# Altium integrated library Micron Memory Parallel NOR Flash.IntLib: 720 symbols (part 42 of 216)
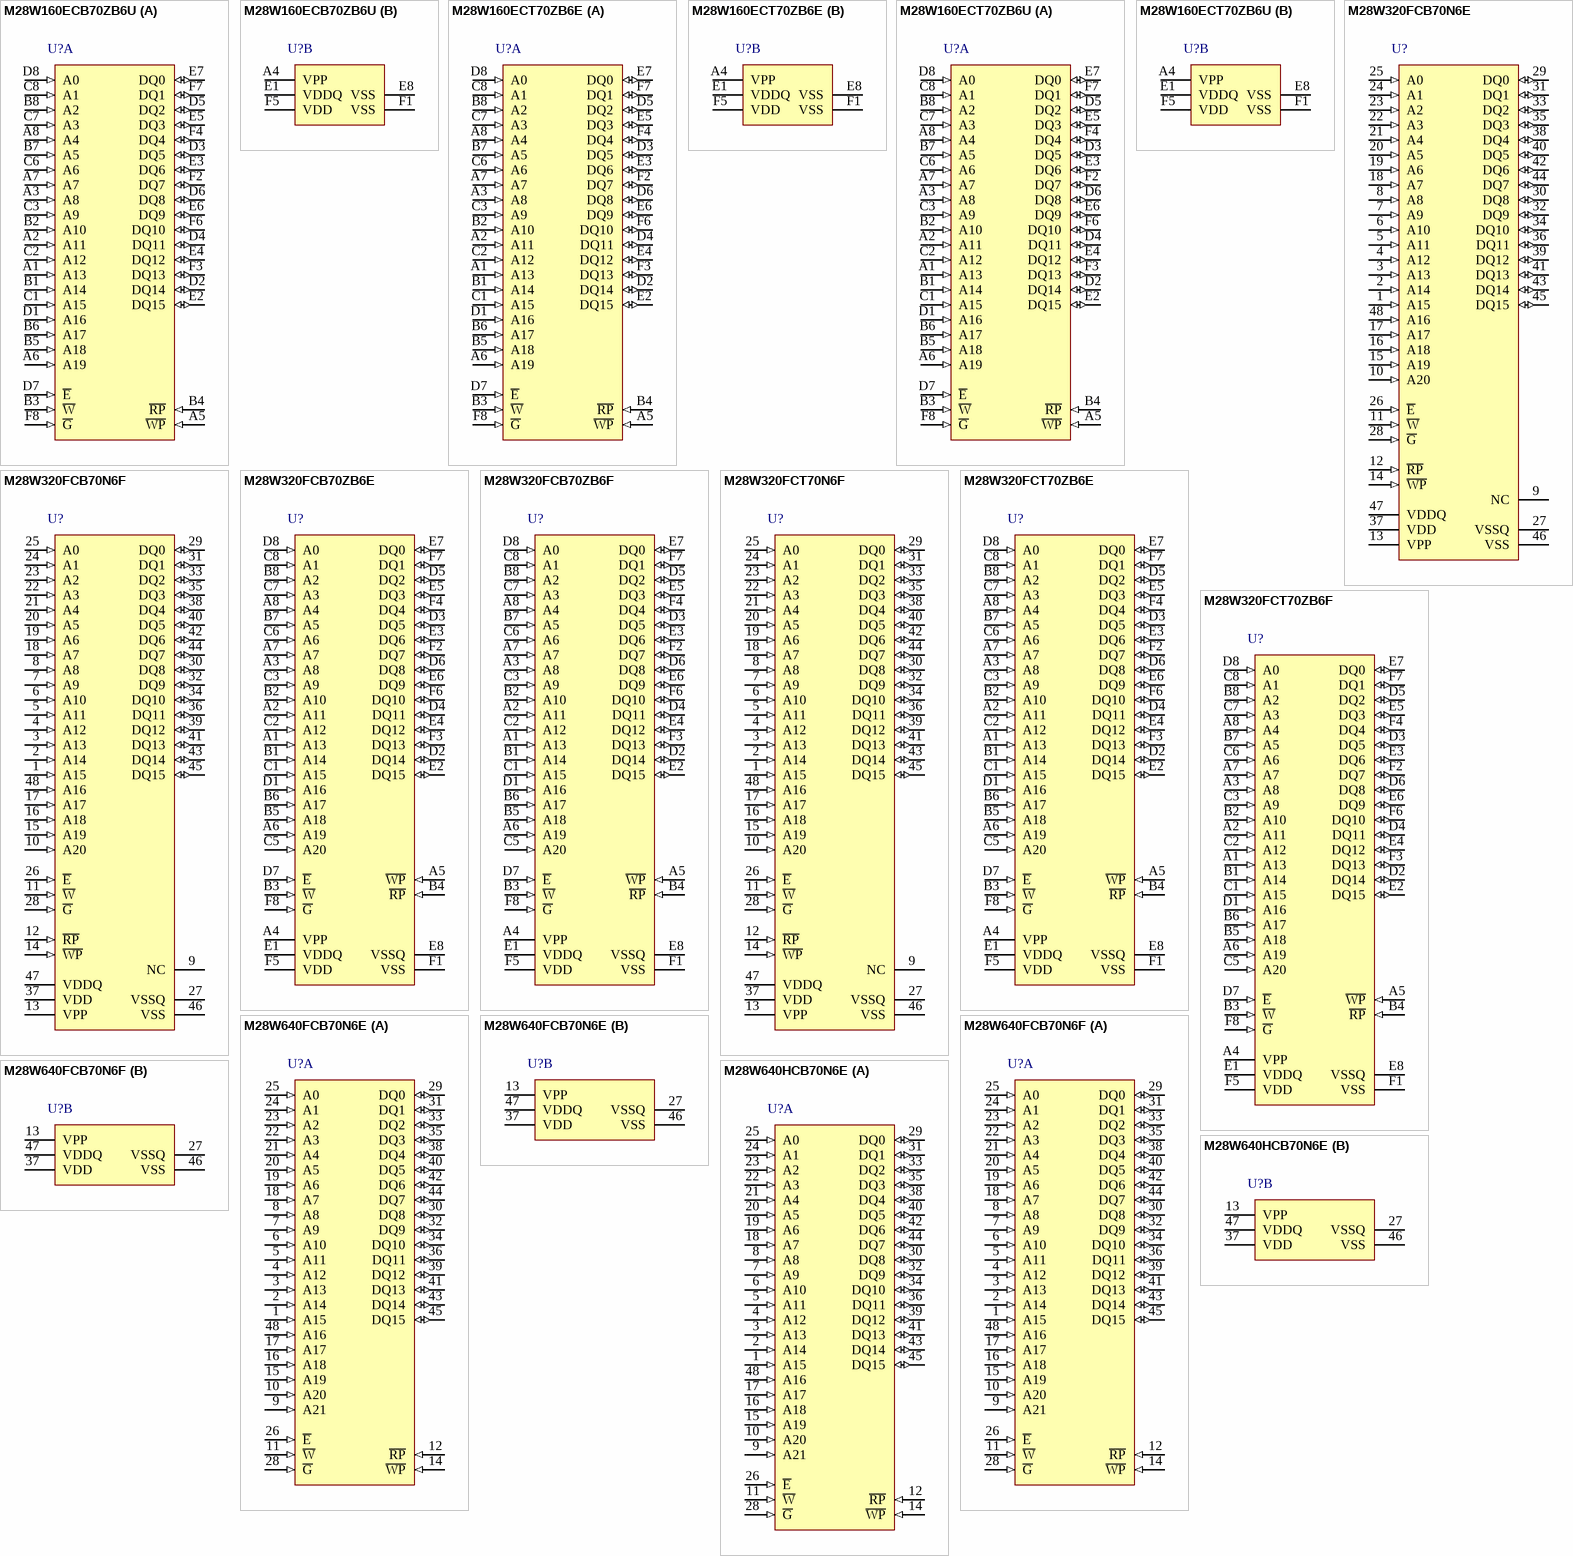
[diagram p197: symbols M28W160ECB70ZB6U to M28W640HCB70N6E]

## M28W320FCT70N6F
designator U?
32 Mb (x16) Parallel NOR Flash Memory, 70 ns, 2.7 to 3.6 V, 48-pin TSOP (N), Tape & Reel; Part Family: M28W; Manufacturer: Micron; PartNumber: M28W320FCT70N6F; Density: 32Mb; Op Temp: -40C to +85C; Speed: 70ns; Voltage: 2.7V-3.6V; DatasheetVersion: Rev.5; PackageVersion: Rev 11; PackageReference: MICT-N-48; PackageDescription: 48-Pin TSOP, 18.4 X 12 mm, Pitch 0.5 mm; RoHS: Yes; Width: x16; ComponentLink1Description: Manufacturer URL; ComponentLink1URL: http://www.micron.com/; ComponentLink2Description: Datasheet; ComponentLink2URL: http://www.micron.com/~/media/Documents/Products/Data%20Sheet/NOR%20Flash/Parallel/M28W/M28W320FC.pdf; ComponentLink3Description: Package Specification; ComponentLink3URL: http://www.micron.com/~/media/Documents/Products/Data%20Sheet/NOR%20Flash/Parallel/P30/306666_P30_130nm_Discrete_DS.pdf
footprint MICT-N-48_N (SOP, 48-Leads, Body 12x18.4mm, Pitch 0.5mm, IPC Medium Density)
pins: 1 A15 (in) "The Address Input select the cells in the memory array to access during Bus Read operations. During Bus Write operations they control the commands sent to the Command Interface of the internal state machine.", 2 A14 (in) "The Address Input select the cells in the memory array to access during Bus Read operations. During Bus Write operations they control the commands sent to the Command Interface of the internal state machine.", 3 A13 (in) "The Address Input select the cells in the memory array to access during Bus Read operations. During Bus Write operations they control the commands sent to the Command Interface of the internal state machine.", 4 A12 (in) "The Address Input select the cells in the memory array to access during Bus Read operations. During Bus Write operations they control the commands sent to the Command Interface of the internal state machine.", 5 A11 (in) "The Address Input select the cells in the memory array to access during Bus Read operations. During Bus Write operations they control the commands sent to the Command Interface of the internal state machine.", 6 A10 (in) "The Address Input select the cells in the memory array to access during Bus Read operations. During Bus Write operations they control the commands sent to the Command Interface of the internal state machine.", 7 A9 (in) "The Address Input select the cells in the memory array to access during Bus Read operations. During Bus Write operations they control the commands sent to the Command Interface of the internal state machine.", 8 A8 (in) "The Address Input select the cells in the memory array to access during Bus Read operations. During Bus Write operations they control the commands sent to the Command Interface of the internal state machine.", 9 NC "Not Connected Internally", 10 A20 (in) "The Address Input select the cells in the memory array to access during Bus Read operations. During Bus Write operations they control the commands sent to the Command Interface of the internal state machine.", 11 ~{W} (in) "The Write Enable controls the Bus Write operation of the memory’s Command Interface. The data and address inputs are latched on the rising edge of Chip Enable, E, or Write Enable, W\, whichever occurs first.", 12 ~{RP} (in) "The Reset input provides a hardware reset of the memory. When Reset is at VIL, the memory is in reset mode: the outputs are high impedance and the current consumption is minimized. After Reset all blocks are in the Locked (See Datasheet)", 13 VPP (power) "VPP is both a control input and a power supply pin. The two functions are selected by the voltage range applied to the pin. The Supply Voltage VDD and the Program Supply Voltage VPP can be applied in any order.", 14 ~{WP} (in) "Write Protect is an input that gives an additional hardware protection for each block. When Write Protect is at VIL, the Lock-Down is enabled and the protection status of the block cannot be changed. When Write Protect is at (See Datasheet)", 15 A19 (in) "The Address Input select the cells in the memory array to access during Bus Read operations. During Bus Write operations they control the commands sent to the Command Interface of the internal state machine.", 16 A18 (in) "The Address Input select the cells in the memory array to access during Bus Read operations. During Bus Write operations they control the commands sent to the Command Interface of the internal state machine.", 17 A17 (in) "The Address Input select the cells in the memory array to access during Bus Read operations. During Bus Write operations they control the commands sent to the Command Interface of the internal state machine.", 18 A7 (in) "The Address Input select the cells in the memory array to access during Bus Read operations. During Bus Write operations they control the commands sent to the Command Interface of the internal state machine.", 19 A6 (in) "The Address Input select the cells in the memory array to access during Bus Read operations. During Bus Write operations they control the commands sent to the Command Interface of the internal state machine.", 20 A5 (in) "The Address Input select the cells in the memory array to access during Bus Read operations. During Bus Write operations they control the commands sent to the Command Interface of the internal state machine.", 21 A4 (in) "The Address Input select the cells in the memory array to access during Bus Read operations. During Bus Write operations they control the commands sent to the Command Interface of the internal state machine.", 22 A3 (in) "The Address Input select the cells in the memory array to access during Bus Read operations. During Bus Write operations they control the commands sent to the Command Interface of the internal state machine.", 23 A2 (in) "The Address Input select the cells in the memory array to access during Bus Read operations. During Bus Write operations they control the commands sent to the Command Interface of the internal state machine.", 24 A1 (in) "The Address Input select the cells in the memory array to access during Bus Read operations. During Bus Write operations they control the commands sent to the Command Interface of the internal state machine.", 25 A0 (in) "The Address Input select the cells in the memory array to access during Bus Read operations. During Bus Write operations they control the commands sent to the Command Interface of the internal state machine.", 26 ~{E} (in) "The Chip Enable input activates the memory control logic, input buffers, decoders and sense amplifiers. When Chip Enable is at VILand Reset is at VIH the device is in active mode. When Chip Enable is at VIH the memory is (See Datasheet)", 27 VSSQ (power), 28 ~{G} (in) "The Output Enable controls data outputs during the Bus Read operation of the memory.", 29 DQ0 (io) "The Data I/O output the data stored at the selected address during a Bus Read operation or Input a command or the data to be programmed during a Write Bus operation.", 30 DQ8 (io) "The Data I/O output the data stored at the selected address during a Bus Read operation or inputs a command or the data to be programmed during a Write Bus operation.", 31 DQ1 (io) "The Data I/O output the data stored at the selected address during a Bus Read operation or inputs a command or the data to be programmed during a Write Bus operation.", 32 DQ9 (io) "The Data I/O output the data stored at the selected address during a Bus Read operation or inputs a command or the data to be programmed during a Write Bus operation.", 33 DQ2 (io) "The Data I/O output the data stored at the selected address during a Bus Read operation or input a command or the data to be programmed during a Write Bus operation.", 34 DQ10 (io) "The Data I/O output the data stored at the selected address during a Bus Read operation or inputs a command or the data to be programmed during a Write Bus operation.", 35 DQ3 (io) "The Data I/O output the data stored at the selected address during a Bus Read operation or input a command or the data to be programmed during a Write Bus operation.", 36 DQ11 (io) "The Data I/O output the data stored at the selected address during a Bus Read operation or inputs a command or the data to be programmed during a Write Bus operation.", 37 VDD (power) "VDD provides the power supply to the internal core of the memory device. It is the main power supply for all operations (Read, Program and Erase).", 38 DQ4 (io) "The Data I/O OUTPUT the data stored at the selected address during a Bus Read operation or INPUT a command or the data to be programmed during a Write Bus operation.", 39 DQ12 (io) "The Data I/O output the data stored at the selected address during a Bus Read operation or inputs a command or the data to be programmed during a Write Bus operation.", 40 DQ5 (io) "The Data I/O output the data stored at the selected address during a Bus Read operation or inputs a command or the data to be programmed during a Write Bus operation.", 41 DQ13 (io) "The Data I/O output the data stored at the selected address during a Bus Read operation or inputs a command or the data to be programmed during a Write Bus operation.", 42 DQ6 (io) "The Data I/O output the data stored at the selected address during a Bus Read operation or inputs a command or the data to be programmed during a Write Bus operation.", 43 DQ14 (io) "The Data I/O output the data stored at the selected address during a Bus Read operation or inputs a command or the data to be programmed during a Write Bus operation.", 44 DQ7 (io) "The Data I/O output the data stored at the selected address during a Bus Read operation or inputs a command or the data to be programmed during a Write Bus operation.", 45 DQ15 (io) "The Data I/O output the data stored at the selected address during a Bus Read operation or inputs a command or the data to be programmed during a Write Bus operation.", 46 VSS (power) "VSS is the reference for all voltage measurements.", 47 VDDQ (power) "VDDQ provides the power supply to the I/O pins and enables all Outputs to be powered independently from VDD. VDDQ can be tied to VDD or can use a separate supply.", 48 A16 (in) "The Address Input select the cells in the memory array to access during Bus Read operations. During Bus Write operations they control the commands sent to the Command Interface of the internal state machine."